# Altium schematic symbol library SimpleHeaders.SchLib: 50 symbols
Pins are listed as number, name and electrical type; pins without a type are passive.

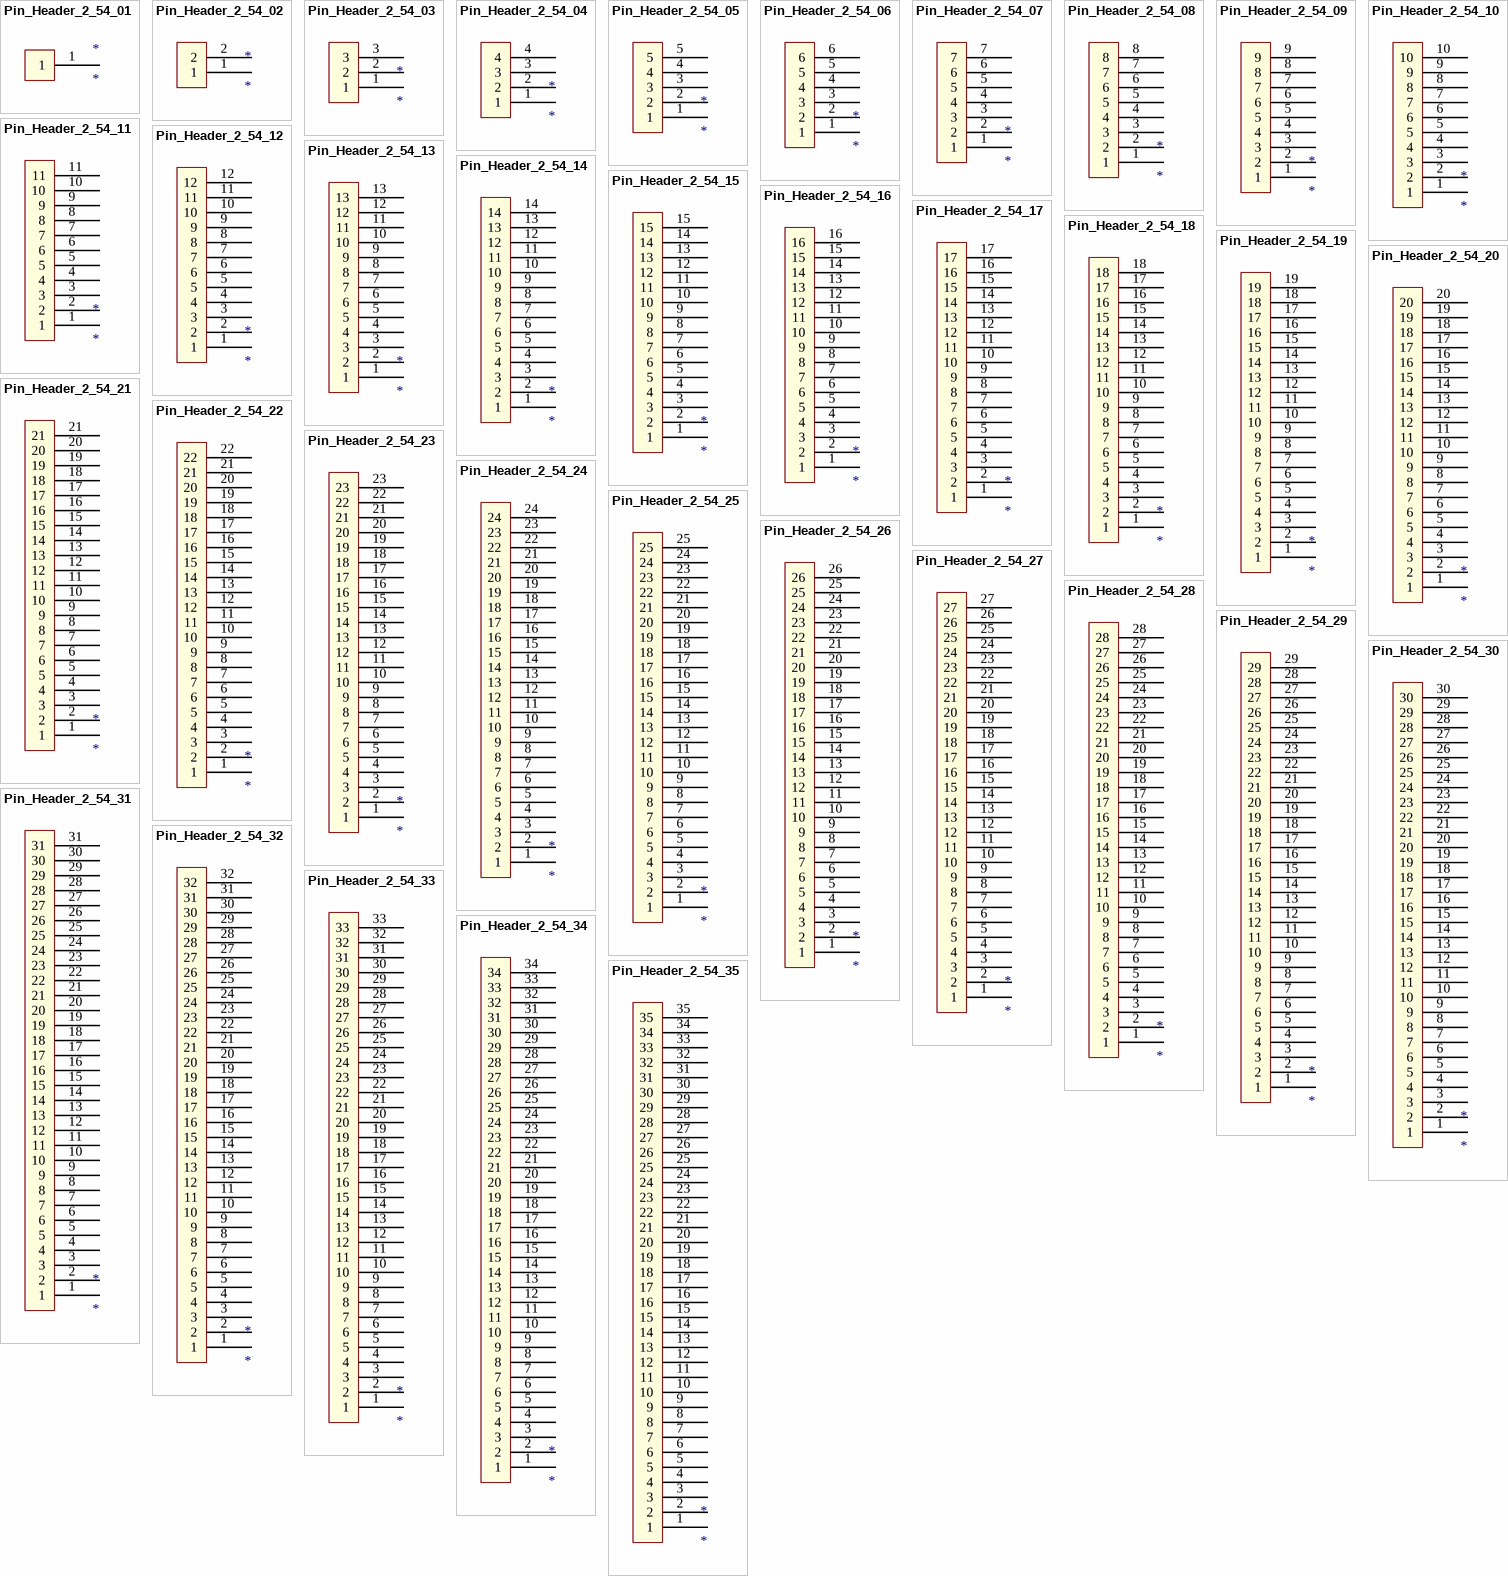
[diagram p0: symbols Pin_Header_2_54_01 to Pin_Header_2_54_35]

## Pin_Header_2_54_01
designator *
footprint PIN_HEADER_2_54_01
pins: 1

## Pin_Header_2_54_02
designator *
footprint PIN_HEADER_2_54_02
pins: 1, 2

## Pin_Header_2_54_03
designator *
footprint PIN_HEADER_2_54_03
pins: 1, 2, 3

## Pin_Header_2_54_04
designator *
footprint PIN_HEADER_2_54_04
pins: 1, 2, 3, 4

## Pin_Header_2_54_05
designator *
footprint PIN_HEADER_2_54_05
pins: 1, 2, 3, 4, 5

## Pin_Header_2_54_06
designator *
footprint PIN_HEADER_2_54_06
pins: 1, 2, 3, 4, 5, 6

## Pin_Header_2_54_07
designator *
footprint PIN_HEADER_2_54_07
pins: 1, 2, 3, 4, 5, 6, 7

## Pin_Header_2_54_08
designator *
footprint PIN_HEADER_2_54_08
pins: 1, 2, 3, 4, 5, 6, 7, 8

## Pin_Header_2_54_09
designator *
footprint PIN_HEADER_2_54_09
pins: 1, 2, 3, 4, 5, 6, 7, 8, 9

## Pin_Header_2_54_10
designator *
footprint PIN_HEADER_2_54_10
pins: 1, 2, 3, 4, 5, 6, 7, 8, 9, 10

## Pin_Header_2_54_11
designator *
footprint PIN_HEADER_2_54_11
pins: 1, 2, 3, 4, 5, 6, 7, 8, 9, 10, 11

## Pin_Header_2_54_12
designator *
footprint PIN_HEADER_2_54_12
pins: 1, 2, 3, 4, 5, 6, 7, 8, 9, 10, 11, 12

## Pin_Header_2_54_13
designator *
footprint PIN_HEADER_2_54_13
pins: 1, 2, 3, 4, 5, 6, 7, 8, 9, 10, 11, 12, 13

## Pin_Header_2_54_14
designator *
footprint PIN_HEADER_2_54_14
pins: 1, 2, 3, 4, 5, 6, 7, 8, 9, 10, 11, 12, 13, 14

## Pin_Header_2_54_15
designator *
footprint PIN_HEADER_2_54_15
pins: 1, 2, 3, 4, 5, 6, 7, 8, 9, 10, 11, 12, 13, 14, 15

## Pin_Header_2_54_16
designator *
footprint PIN_HEADER_2_54_16
pins: 1, 2, 3, 4, 5, 6, 7, 8, 9, 10, 11, 12, 13, 14, 15, 16

## Pin_Header_2_54_17
designator *
footprint PIN_HEADER_2_54_17
pins: 1, 2, 3, 4, 5, 6, 7, 8, 9, 10, 11, 12, 13, 14, 15, 16, 17

## Pin_Header_2_54_18
designator *
footprint PIN_HEADER_2_54_18
pins: 1, 2, 3, 4, 5, 6, 7, 8, 9, 10, 11, 12, 13, 14, 15, 16, 17, 18

## Pin_Header_2_54_19
designator *
footprint PIN_HEADER_2_54_19
pins: 1, 2, 3, 4, 5, 6, 7, 8, 9, 10, 11, 12, 13, 14, 15, 16, 17, 18, 19

## Pin_Header_2_54_20
designator *
footprint PIN_HEADER_2_54_20
pins: 1, 2, 3, 4, 5, 6, 7, 8, 9, 10, 11, 12, 13, 14, 15, 16, 17, 18, 19, 20

## Pin_Header_2_54_21
designator *
footprint PIN_HEADER_2_54_21
pins: 1, 2, 3, 4, 5, 6, 7, 8, 9, 10, 11, 12, 13, 14, 15, 16, 17, 18, 19, 20, 21

## Pin_Header_2_54_22
designator *
footprint PIN_HEADER_2_54_22
pins: 1, 2, 3, 4, 5, 6, 7, 8, 9, 10, 11, 12, 13, 14, 15, 16, 17, 18, 19, 20, 21, 22

## Pin_Header_2_54_23
designator *
footprint PIN_HEADER_2_54_23
pins: 1, 2, 3, 4, 5, 6, 7, 8, 9, 10, 11, 12, 13, 14, 15, 16, 17, 18, 19, 20, 21, 22, 23

## Pin_Header_2_54_24
designator *
footprint PIN_HEADER_2_54_24
pins: 1, 2, 3, 4, 5, 6, 7, 8, 9, 10, 11, 12, 13, 14, 15, 16, 17, 18, 19, 20, 21, 22, 23, 24

## Pin_Header_2_54_25
designator *
footprint PIN_HEADER_2_54_25
pins: 1, 2, 3, 4, 5, 6, 7, 8, 9, 10, 11, 12, 13, 14, 15, 16, 17, 18, 19, 20, 21, 22, 23, 24, 25

## Pin_Header_2_54_26
designator *
footprint PIN_HEADER_2_54_26
pins: 1, 2, 3, 4, 5, 6, 7, 8, 9, 10, 11, 12, 13, 14, 15, 16, 17, 18, 19, 20, 21, 22, 23, 24, 25, 26

## Pin_Header_2_54_27
designator *
footprint PIN_HEADER_2_54_27
pins: 1, 2, 3, 4, 5, 6, 7, 8, 9, 10, 11, 12, 13, 14, 15, 16, 17, 18, 19, 20, 21, 22, 23, 24, 25, 26, 27

## Pin_Header_2_54_28
designator *
footprint PIN_HEADER_2_54_28
pins: 1, 2, 3, 4, 5, 6, 7, 8, 9, 10, 11, 12, 13, 14, 15, 16, 17, 18, 19, 20, 21, 22, 23, 24, 25, 26, 27, 28

## Pin_Header_2_54_29
designator *
footprint PIN_HEADER_2_54_29
pins: 1, 2, 3, 4, 5, 6, 7, 8, 9, 10, 11, 12, 13, 14, 15, 16, 17, 18, 19, 20, 21, 22, 23, 24, 25, 26, 27, 28, 29

## Pin_Header_2_54_30
designator *
footprint PIN_HEADER_2_54_30
pins: 1, 2, 3, 4, 5, 6, 7, 8, 9, 10, 11, 12, 13, 14, 15, 16, 17, 18, 19, 20, 21, 22, 23, 24, 25, 26, 27, 28, 29, 30

## Pin_Header_2_54_31
designator *
footprint PIN_HEADER_2_54_31
pins: 1, 2, 3, 4, 5, 6, 7, 8, 9, 10, 11, 12, 13, 14, 15, 16, 17, 18, 19, 20, 21, 22, 23, 24, 25, 26, 27, 28, 29, 30, 31

## Pin_Header_2_54_32
designator *
footprint PIN_HEADER_2_54_32
pins: 1, 2, 3, 4, 5, 6, 7, 8, 9, 10, 11, 12, 13, 14, 15, 16, 17, 18, 19, 20, 21, 22, 23, 24, 25, 26, 27, 28, 29, 30, 31, 32

## Pin_Header_2_54_33
designator *
footprint PIN_HEADER_2_54_33
pins: 1, 2, 3, 4, 5, 6, 7, 8, 9, 10, 11, 12, 13, 14, 15, 16, 17, 18, 19, 20, 21, 22, 23, 24, 25, 26, 27, 28, 29, 30, 31, 32, 33

## Pin_Header_2_54_34
designator *
footprint PIN_HEADER_2_54_34
pins: 1, 2, 3, 4, 5, 6, 7, 8, 9, 10, 11, 12, 13, 14, 15, 16, 17, 18, 19, 20, 21, 22, 23, 24, 25, 26, 27, 28, 29, 30, 31, 32, 33, 34

## Pin_Header_2_54_35
designator *
footprint PIN_HEADER_2_54_35
pins: 1, 2, 3, 4, 5, 6, 7, 8, 9, 10, 11, 12, 13, 14, 15, 16, 17, 18, 19, 20, 21, 22, 23, 24, 25, 26, 27, 28, 29, 30, 31, 32, 33, 34, 35

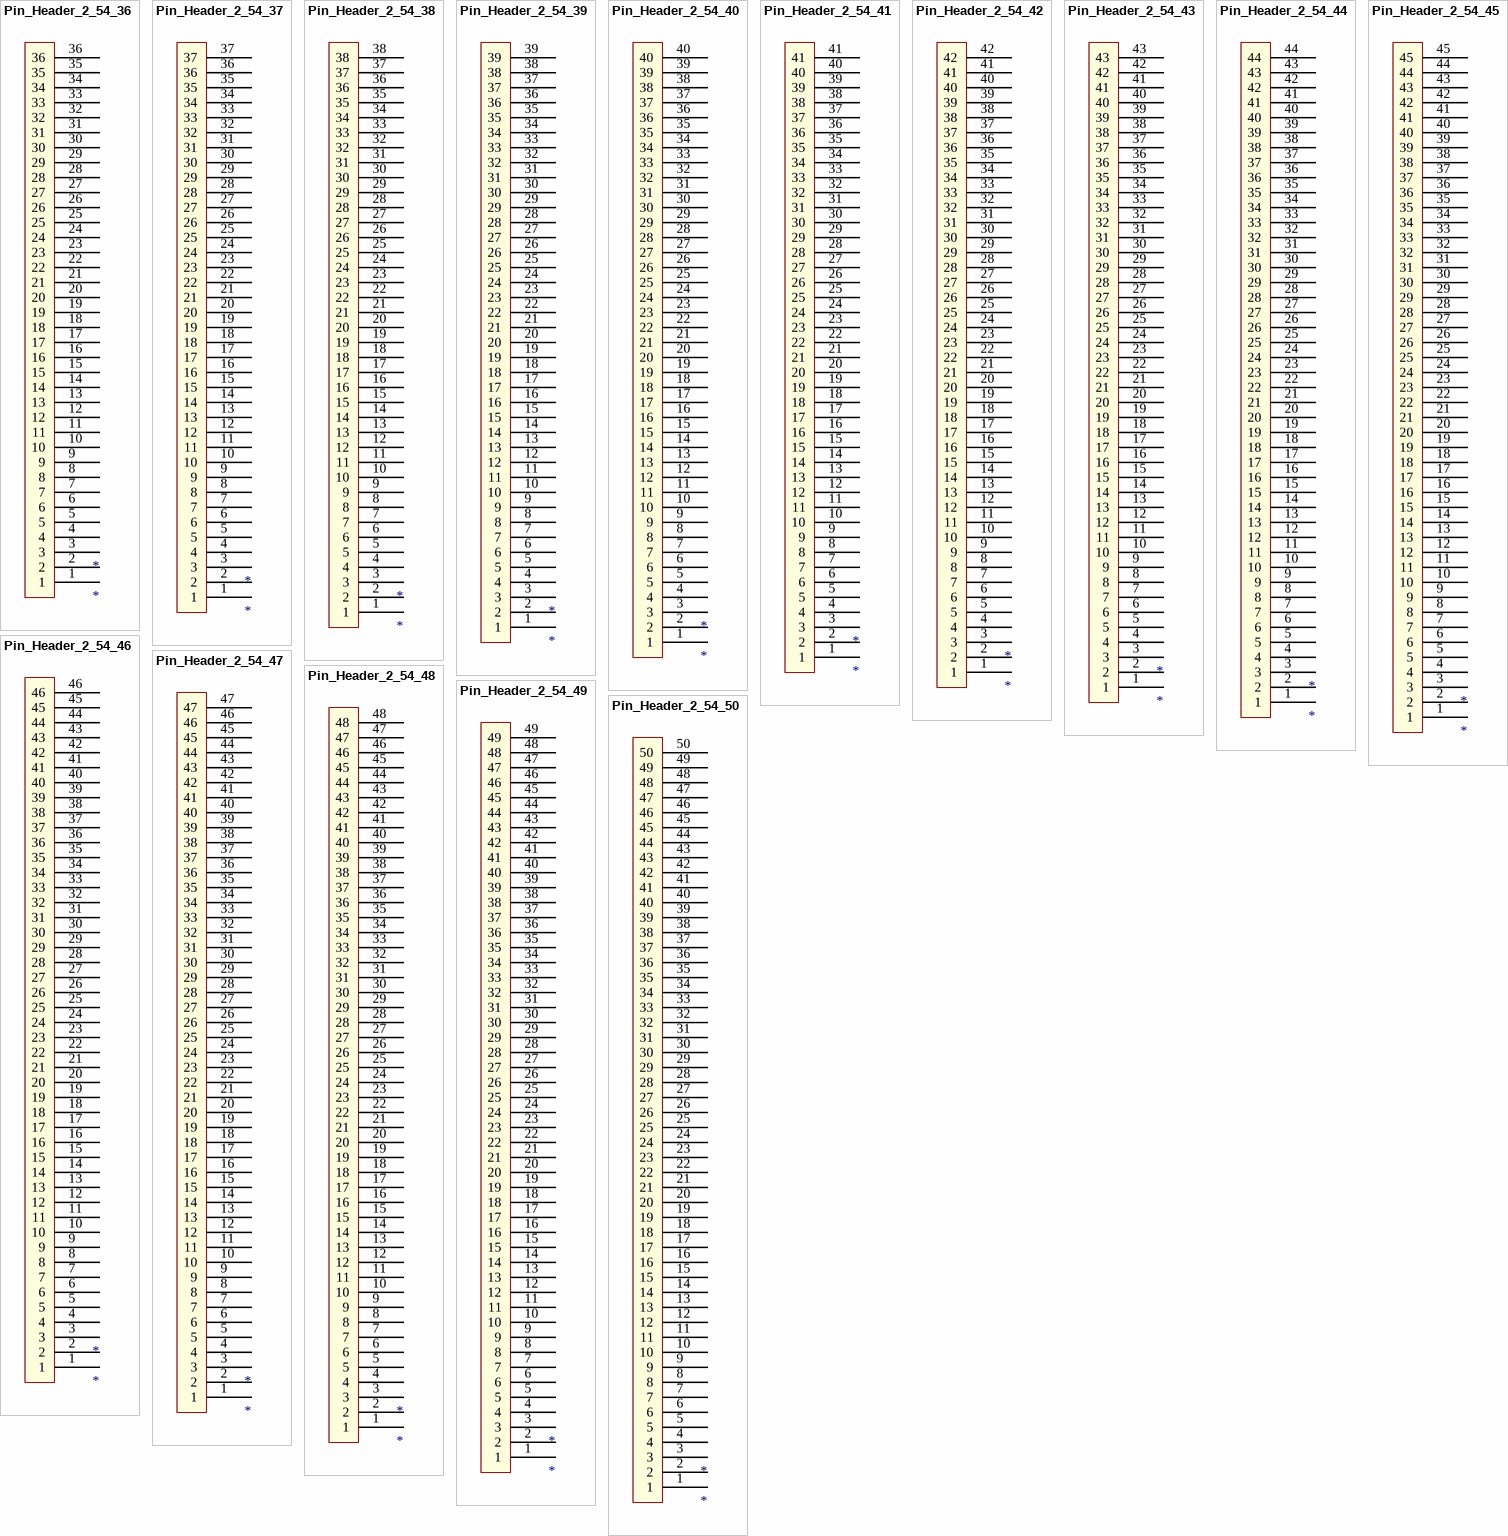
[diagram p1: symbols Pin_Header_2_54_36 to Pin_Header_2_54_50]

## Pin_Header_2_54_36
designator *
footprint PIN_HEADER_2_54_36
pins: 1, 2, 3, 4, 5, 6, 7, 8, 9, 10, 11, 12, 13, 14, 15, 16, 17, 18, 19, 20, 21, 22, 23, 24, 25, 26, 27, 28, 29, 30, 31, 32, 33, 34, 35, 36

## Pin_Header_2_54_37
designator *
footprint PIN_HEADER_2_54_37
pins: 1, 2, 3, 4, 5, 6, 7, 8, 9, 10, 11, 12, 13, 14, 15, 16, 17, 18, 19, 20, 21, 22, 23, 24, 25, 26, 27, 28, 29, 30, 31, 32, 33, 34, 35, 36, 37

## Pin_Header_2_54_38
designator *
footprint PIN_HEADER_2_54_38
pins: 1, 2, 3, 4, 5, 6, 7, 8, 9, 10, 11, 12, 13, 14, 15, 16, 17, 18, 19, 20, 21, 22, 23, 24, 25, 26, 27, 28, 29, 30, 31, 32, 33, 34, 35, 36, 37, 38

## Pin_Header_2_54_39
designator *
footprint PIN_HEADER_2_54_39
pins: 1, 2, 3, 4, 5, 6, 7, 8, 9, 10, 11, 12, 13, 14, 15, 16, 17, 18, 19, 20, 21, 22, 23, 24, 25, 26, 27, 28, 29, 30, 31, 32, 33, 34, 35, 36, 37, 38, 39

## Pin_Header_2_54_40
designator *
footprint PIN_HEADER_2_54_40
pins: 1, 2, 3, 4, 5, 6, 7, 8, 9, 10, 11, 12, 13, 14, 15, 16, 17, 18, 19, 20, 21, 22, 23, 24, 25, 26, 27, 28, 29, 30, 31, 32, 33, 34, 35, 36, 37, 38, 39, 40

## Pin_Header_2_54_41
designator *
footprint PIN_HEADER_2_54_41
pins: 1, 2, 3, 4, 5, 6, 7, 8, 9, 10, 11, 12, 13, 14, 15, 16, 17, 18, 19, 20, 21, 22, 23, 24, 25, 26, 27, 28, 29, 30, 31, 32, 33, 34, 35, 36, 37, 38, 39, 40, 41

## Pin_Header_2_54_42
designator *
footprint PIN_HEADER_2_54_42
pins: 1, 2, 3, 4, 5, 6, 7, 8, 9, 10, 11, 12, 13, 14, 15, 16, 17, 18, 19, 20, 21, 22, 23, 24, 25, 26, 27, 28, 29, 30, 31, 32, 33, 34, 35, 36, 37, 38, 39, 40, 41, 42

## Pin_Header_2_54_43
designator *
footprint PIN_HEADER_2_54_43
pins: 1, 2, 3, 4, 5, 6, 7, 8, 9, 10, 11, 12, 13, 14, 15, 16, 17, 18, 19, 20, 21, 22, 23, 24, 25, 26, 27, 28, 29, 30, 31, 32, 33, 34, 35, 36, 37, 38, 39, 40, 41, 42, 43

## Pin_Header_2_54_44
designator *
footprint PIN_HEADER_2_54_44
pins: 1, 2, 3, 4, 5, 6, 7, 8, 9, 10, 11, 12, 13, 14, 15, 16, 17, 18, 19, 20, 21, 22, 23, 24, 25, 26, 27, 28, 29, 30, 31, 32, 33, 34, 35, 36, 37, 38, 39, 40, 41, 42, 43, 44

## Pin_Header_2_54_45
designator *
footprint PIN_HEADER_2_54_45
pins: 1, 2, 3, 4, 5, 6, 7, 8, 9, 10, 11, 12, 13, 14, 15, 16, 17, 18, 19, 20, 21, 22, 23, 24, 25, 26, 27, 28, 29, 30, 31, 32, 33, 34, 35, 36, 37, 38, 39, 40, 41, 42, 43, 44, 45

## Pin_Header_2_54_46
designator *
footprint PIN_HEADER_2_54_46
pins: 1, 2, 3, 4, 5, 6, 7, 8, 9, 10, 11, 12, 13, 14, 15, 16, 17, 18, 19, 20, 21, 22, 23, 24, 25, 26, 27, 28, 29, 30, 31, 32, 33, 34, 35, 36, 37, 38, 39, 40, 41, 42, 43, 44, 45, 46

## Pin_Header_2_54_47
designator *
footprint PIN_HEADER_2_54_47
pins: 1, 2, 3, 4, 5, 6, 7, 8, 9, 10, 11, 12, 13, 14, 15, 16, 17, 18, 19, 20, 21, 22, 23, 24, 25, 26, 27, 28, 29, 30, 31, 32, 33, 34, 35, 36, 37, 38, 39, 40, 41, 42, 43, 44, 45, 46, 47

## Pin_Header_2_54_48
designator *
footprint PIN_HEADER_2_54_48
pins: 1, 2, 3, 4, 5, 6, 7, 8, 9, 10, 11, 12, 13, 14, 15, 16, 17, 18, 19, 20, 21, 22, 23, 24, 25, 26, 27, 28, 29, 30, 31, 32, 33, 34, 35, 36, 37, 38, 39, 40, 41, 42, 43, 44, 45, 46, 47, 48

## Pin_Header_2_54_49
designator *
footprint PIN_HEADER_2_54_49
pins: 1, 2, 3, 4, 5, 6, 7, 8, 9, 10, 11, 12, 13, 14, 15, 16, 17, 18, 19, 20, 21, 22, 23, 24, 25, 26, 27, 28, 29, 30, 31, 32, 33, 34, 35, 36, 37, 38, 39, 40, 41, 42, 43, 44, 45, 46, 47, 48, 49

## Pin_Header_2_54_50
designator *
footprint PIN_HEADER_2_54_50
pins: 1, 2, 3, 4, 5, 6, 7, 8, 9, 10, 11, 12, 13, 14, 15, 16, 17, 18, 19, 20, 21, 22, 23, 24, 25, 26, 27, 28, 29, 30, 31, 32, 33, 34, 35, 36, 37, 38, 39, 40, 41, 42, 43, 44, 45, 46, 47, 48, 49, 50